# EAGLE library part 651305142821 (library 632723100011_Eagle_WR-USB_rev19b)
WR-COM Horizontal 5 Contacts Mini USB Type AB=>Code : Con_I-O_COM_MiniUSB_651305142821 <http://katalog.we-online.de/media/images/eican/Con_I-O_COM_MiniUSB_651305142821_pf2.jpg> Details see: http://katalog.we-online.de/en/em/COM_SMT_MINI_TYPE_AB_HORIZONTAL/651305142821 Created 2014-07-09, Karrer Zheng 2014 (C) Würth Elektronik
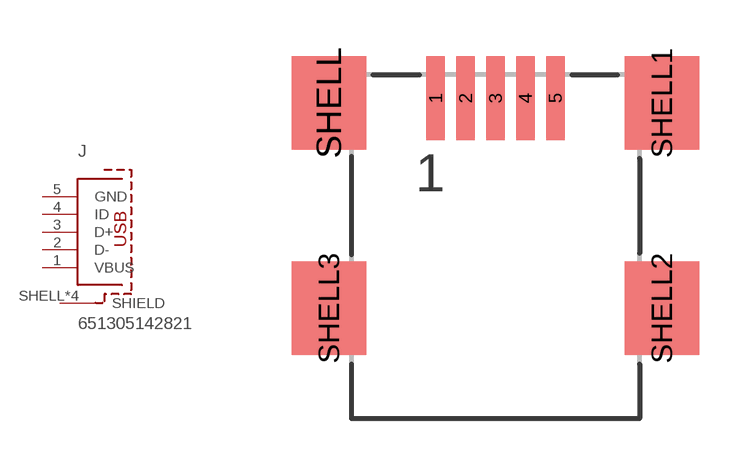
[diagram p70: symbol with the pads of 651305142821; footprint 651305142821]

Designator prefix J

## 651305142821  [651305142821]
1  VBUS  pas
2  D-  pas
3  D+  pas
4  ID  pas
5  GND  pas
SHELL  SHIELD  pas
SHELL1  SHIELD  pas
SHELL2  SHIELD  pas
SHELL3  SHIELD  pas

## Footprint 651305142821 (pad centres in mm)
WR-COM Horizontal 5 Contacts Mini USB Type AB
smd 0.5 x 2.25: 1 -1.6,0.125; 2 -0.8,0.125; 3 0,0.125; 4 0.8,0.125; 5 1.6,0.125
smd 2 x 2.5: SHELL -4.45,0; SHELL1 4.45,0; SHELL2 4.45,-5.5; SHELL3 -4.45,-5.5